# Altium footprint library res0402.PcbLib: 1 footprints
Each footprint in its own frame and in the unit in brackets; x right, y up, seen from the top. Pads: shape width x height; smd on the part's side, far side on the other; paste and mask are expansions set on the pad; w line width, h text height; cw(c..) or ccw(c..) is an arc to the next point about the centre after c.
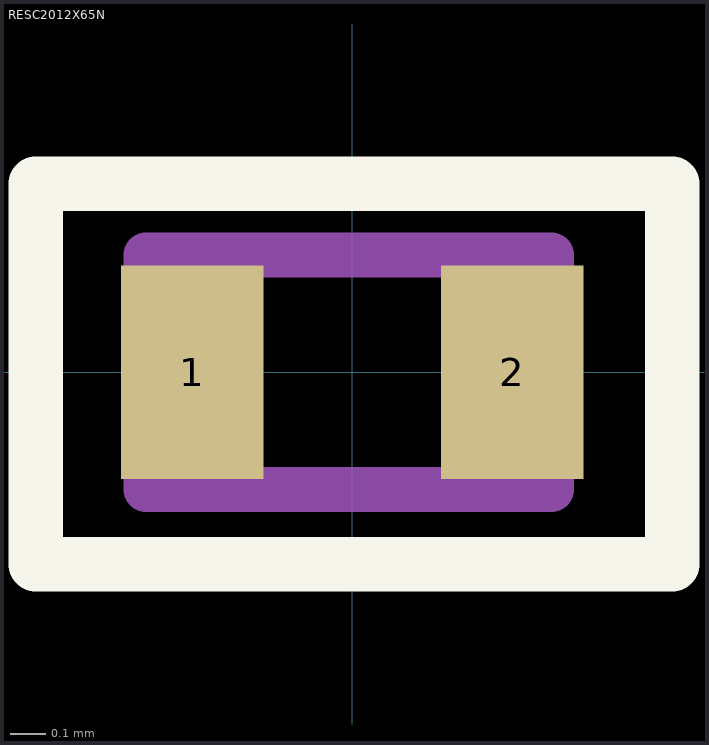
[diagram p0: the footprint, top view; thin cyan lines are the x and y axes]

## RESC2012X65N [mm]
pads (2):
  rect 0.4x0.6 smd: 1(-0.45,0) 2(0.45,0)
Top Overlay:
  lines w0.153: -0.89,-0.54 -0.89,0.53 0.9,0.53 0.9,-0.54 -0.89,-0.54
Mechanical 13:
  lines w0.127: -0.58,-0.33 0.56,-0.33 0.56,0.33 -0.58,0.33 -0.58,-0.33
Mechanical 15:
  lines w0.05: -0.84,-0.51 0.87,-0.51 0.87,0.49 -0.84,0.49 -0.84,-0.51
3D body "User Library-d0402h025.STEP": height 0.25, standoff 0, extent -0.46,-0.26 0.54,0.24